# EAGLE library part Z8FS040BSB20EG (library zilog)
Encoder to Counter Interface Source: http://www.usdigital.com/products/ls7183-ls7184/ls7183 ls7184 Data Sheet.pdf
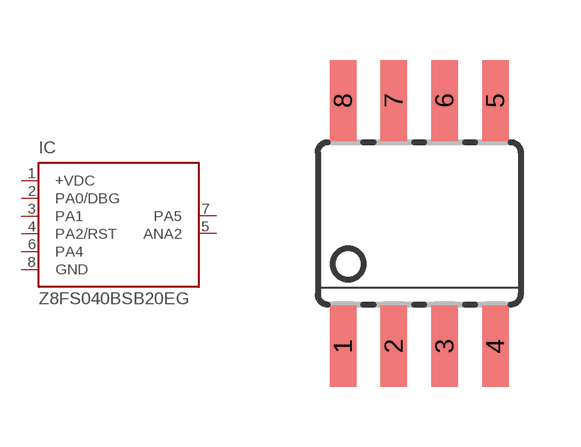
[diagram p0: symbol with the pads of SOIC08; footprint SOIC08]

Designator prefix IC

## Z8FS040BSB20EG-SOIC (OC_FARNELL: unknown; OC_NEWARK: unknown)  [SOIC08]
1  +VDC  in
2  PA0/DBG  in
3  PA1  in
4  PA2/RST  in
5  ANA2  in
6  PA4  in
7  PA5  in
8  GND  pwr

## Footprint SOIC08 (pad centres in mm)
Small Outline Package
smd 0.66 x 2.032: 1 -1.905,-3.073; 2 -0.635,-3.073; 3 0.635,-3.073; 4 1.905,-3.073; 5 1.905,3.073; 6 0.635,3.073; 7 -0.635,3.073; 8 -1.905,3.073